# Altium integrated library NXP Microcontrollers ARM7.IntLib: 82 symbols (part 6 of 11)
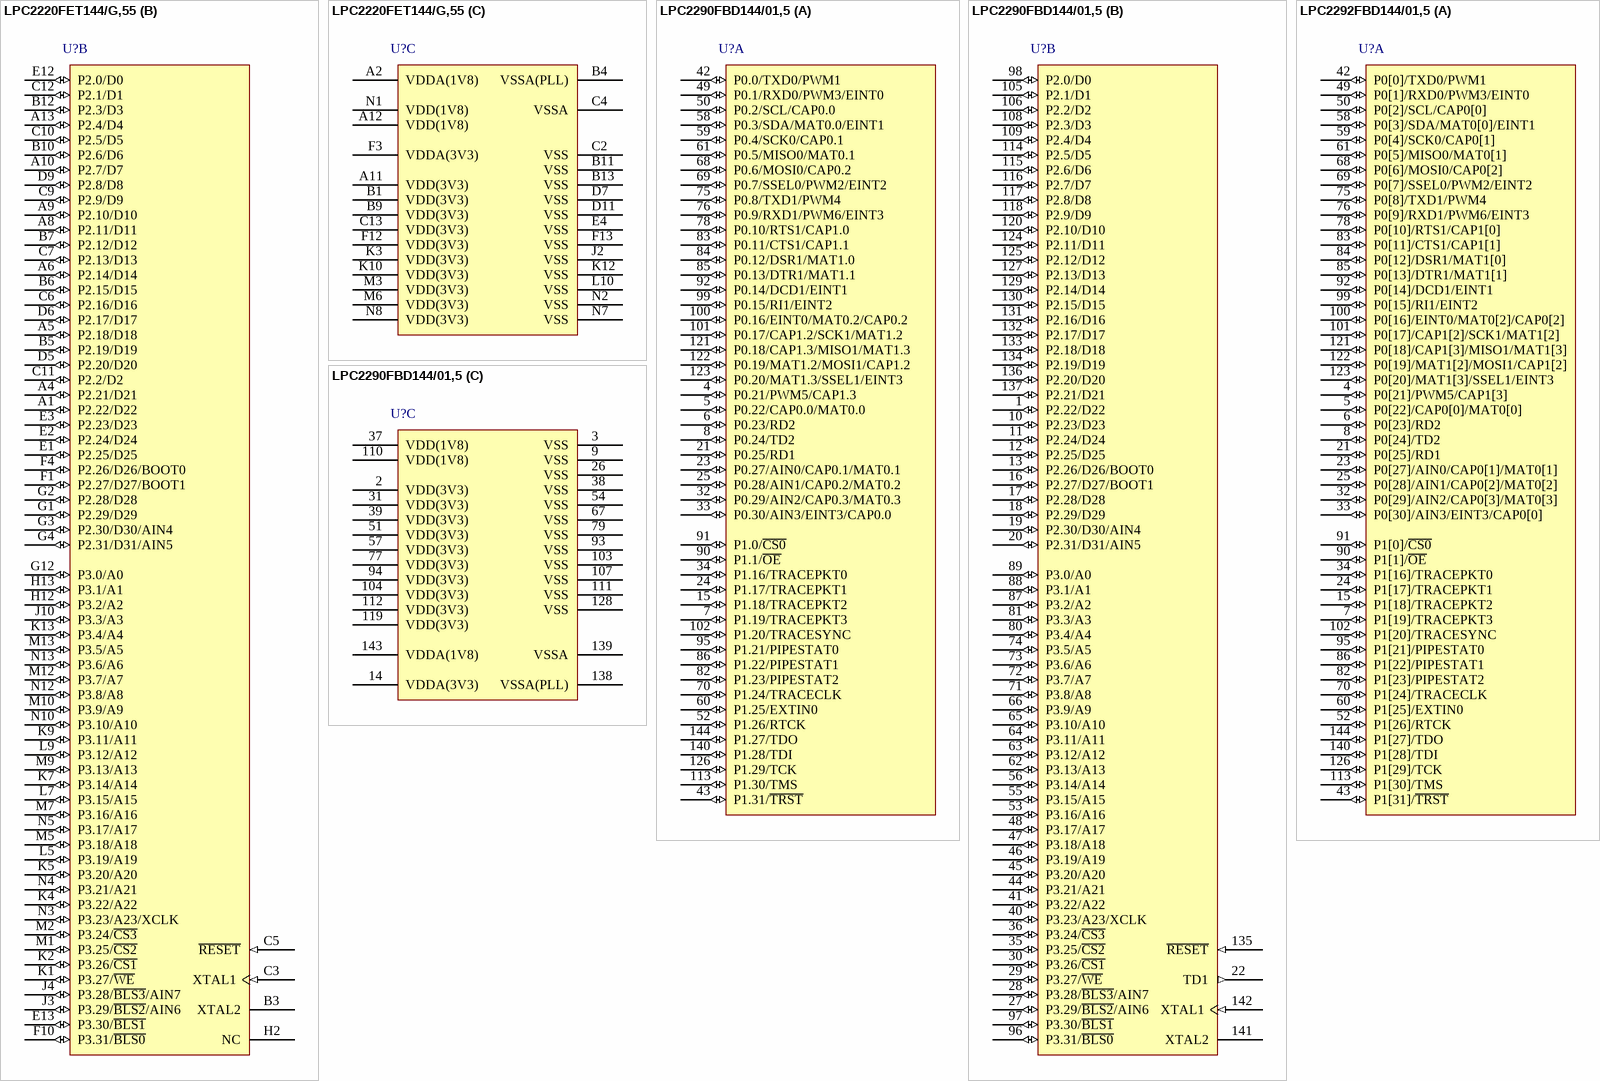
[diagram p40: symbols LPC2220FET144/G,55 to LPC2292FBD144/01,5]

## LPC2220FET144/G,55
designator U?
16/32-bit ARM7 Microcontroller, 76 I/O, 64 kB SRAM, -40 to 85 degC, 144-Ball TFBGA, Tray; Manufacturer: NXP Semiconductors; PartNumber: LPC2220FET144/G,55; # of timers: 2; ADC (bits): 10; ADC Channels: 8; fmax [max] (MHz): 75; I/O Pins: 76; I2C: 1; PLL: TRUE; PWM: 6; RAM (KB): 64; Timer (bits): 32; DatasheetVersion: Rev. 06; PackageVersion: Mar-08; PackageReference: SOT569-2; PackageDescription: 144-Ball Plastic Thin Fine-Pitch Ball Grid Array Package, Body 12 x 12 mm, Pitch 0.8 mm; Supplier 1: Digi-Key; Supplier Part Number 1: 568-2020-ND; Supplier 2: Mouser; Supplier Part Number 2: 771-LPC2220FET144/GS; Core: ARM7; Packing: Tray; SPI: 2; SSP: 1; UART: 2; Mounting Technology: Surface Mount; ComponentLink1Description: Manufacturer URL; ComponentLink1URL: http://www.nxp.com/; ComponentLink2Description: Datasheet; ComponentLink2URL: http://www.nxp.com/documents/data_sheet/LPC2210_2220.pdf; ComponentLink3Description: Package Specification; ComponentLink3URL: http://www.nxp.com/documents/outline_drawing/sot569-2_po.pdf
footprint NXP-SOT569-2_V (BGA, 144-Balls, Body 12x12mm, Pitch 0.8mm)
part A pins: A3 P1.28/TDI (io), A7 P1.29/TCK (io), B2 P1.27/TDO (io), B8 P0.20/MAT1.3/SSEL1/EINT3 (io), C1 P0.21/PWM5/CAP1.3 (io), C8 P0.19/MAT1.2/MOSI1/CAP1.2 (io), D1 P0.24 (io) "Port 0 is a 32-bit bidirectional I/O port with individual direction controls for each bit. The operation of port 0 pins depends upon the pin function selected via the Pin Connect Block.", D2 P1.19/TRACEPKT3 (io), D3 P0.23 (io) "Port 0 is a 32-bit bidirectional I/O port with individual direction controls for each bit. The operation of port 0 pins depends upon the pin function selected via the Pin Connect Block.", D4 P0.22/CAP0.0/MAT0.0 (io), D8 P0.18/CAP1.3/MISO1/MAT1.3 (io), D10 P1.30/TMS (io), D12 P1.20/TRACESYNC (io), D13 P0.17/CAP1.2/SCK1/MAT1.2 (io), E10 P0.16/EINT0/MAT0.2/CAP0.2 (io), E11 P0.15/RI1/EINT2 (io), F2 P1.18/TRACEPKT2 (io), F11 P1.21/PIPESTAT0 (io), G10 P0.14/DCD1/EINT1 (io), G11 P1.0/~{CS0} (io), G13 P1.1/~{OE} (io), H1 P0.25 (io) "Port 0 is a 32-bit bidirectional I/O port with individual direction controls for each bit. The operation of port 0 pins depends upon the pin function selected via the Pin Connect Block.", H3 P0.27/AIN0/CAP0.1/MAT0.1 (io), H4 P1.17/TRACEPKT1 (io), H10 P0.13/DTR1/MAT1.1 (io), H11 P1.22/PIPESTAT1 (io), J1 P0.28/AIN1/CAP0.2/MAT0.2 (io), J11 P1.23/PIPESTAT2 (io), J12 P0.11/CTS1/CAP1.1 (io), J13 P0.12/DSR1/MAT1.0 (io), K6 P0.1/RXD0/PWM3/EINT0 (io), K8 P1.25/EXTIN0 (io), K11 P0.10/RTS1/CAP1.0 (io), L1 P0.29/AIN2/CAP0.3/MAT0.3 (io), L2 P0.30/AIN3/EINT3/CAP0.0 (io), L3 P1.16/TRACEPKT0 (io), L4 P0.0/TXD0/PWM1 (io), L6 P0.2/SCL/CAP0.0 (io), L8 P0.4/SCK0/CAP0.1 (io), L11 P1.24/TRACECLK (io), L12 P0.8/TXD1/PWM4 (io), L13 P0.9/RXD1/PWM6/EINT3 (io), M4 P1.31/~{TRST} (io), M8 P0.3/SDA/MAT0.0/EINT1 (io), M11 P0.7/SSEL0/PWM2/EINT2 (io), N6 P1.26/RTCK (io), N9 P0.5/MISO0/MAT0.1 (io), N11 P0.6/MOSI0/CAP0.2 (io)
part B pins: A1 P2.22/D22 (io), A4 P2.21/D21 (io), A5 P2.18/D18 (io), A6 P2.14/D14 (io), A8 P2.11/D11 (io), A9 P2.10/D10 (io), A10 P2.7/D7 (io), A13 P2.4/D4 (io), B3 XTAL2 "Output from the oscillator amplifier", B5 P2.19/D19 (io), B6 P2.15/D15 (io), B7 P2.12/D12 (io), B10 P2.6/D6 (io), B12 P2.3/D3 (io), C3 XTAL1 (in) "Input to the oscillator circuit and internal clock generator circuits.", C5 ~{RESET} (in) "External reset input: A LOW on this pin resets the device, causing I/O ports and peripherals to take on their default states, and processor execution to begin at address 0. TTL with hysteresis, 5 V tolerant.", C6 P2.16/D16 (io), C7 P2.13/D13 (io), C9 P2.9/D9 (io), C10 P2.5/D5 (io), C11 P2.2/D2 (io), C12 P2.1/D1 (io), D5 P2.20/D20 (io), D6 P2.17/D17 (io), D9 P2.8/D8 (io), E1 P2.25/D25 (io), E2 P2.24/D24 (io), E3 P2.23/D23 (io), E12 P2.0/D0 (io), E13 P3.30/~{BLS1} (io), F1 P2.27/D27/BOOT1 (io), F4 P2.26/D26/BOOT0 (io), F10 P3.31/~{BLS0} (io), G1 P2.29/D29 (io), G2 P2.28/D28 (io), G3 P2.30/D30/AIN4 (io), G4 P2.31/D31/AIN5 (io), G12 P3.0/A0 (io), H2 NC "Not connected. This pin MUST NOT be pulled LOW or the device might not operate properly.", H12 P3.2/A2 (io), H13 P3.1/A1 (io), J3 P3.29/~{BLS2}/AIN6 (io), J4 P3.28/~{BLS3}/AIN7 (io), J10 P3.3/A3 (io), K1 P3.27/~{WE} (io), K2 P3.26/~{CS1} (io), K4 P3.22/A22 (io), K5 P3.20/A20 (io), K7 P3.14/A14 (io), K9 P3.11/A11 (io), K13 P3.4/A4 (io), L5 P3.19/A19 (io), L7 P3.15/A15 (io), L9 P3.12/A12 (io), M1 P3.25/~{CS2} (io), M2 P3.24/~{CS3} (io), M5 P3.18/A18 (io), M7 P3.16/A16 (io), M9 P3.13/A13 (io), M10 P3.9/A9 (io), M12 P3.7/A7 (io), M13 P3.5/A5 (io), N3 P3.23/A23/XCLK (io), N4 P3.21/A21 (io), N5 P3.17/A17 (io), N10 P3.10/A10 (io), N12 P3.8/A8 (io), N13 P3.6/A6 (io)
part C pins: A2 VDDA(1V8) (power) "Analog 1.8 V core power supply: This is the power supply voltage for internal circuitry. This should be nominally the same voltage as VDD(1V8) but should be isolated to minimize noise and error.", A11 VDD(3V3) (power) "3.3 V pad power supply: This is the power supply voltage for the I/O ports.", A12 VDD(1V8) (power) "1.8 V core power supply: This is the power supply voltage for internal circuitry.", B1 VDD(3V3) (power) "3.3 V pad power supply: This is the power supply voltage for the I/O ports.", B4 VSSA(PLL) (power) "PLL analog ground: 0 V reference. This should nominally be the same voltage as VSS, but should be isolated to minimize noise and error.", B9 VDD(3V3) (power) "3.3 V pad power supply: This is the power supply voltage for the I/O ports.", B11 VSS (power) "Ground: 0 V reference.", B13 VSS (power) "Ground: 0 V reference.", C2 VSS (power) "Ground: 0 V reference.", C4 VSSA (power) "Analog ground: 0 V reference. This should nominally be the same voltage as VSS, but should be isolated to minimize noise and error.", C13 VDD(3V3) (power) "3.3 V pad power supply: This is the power supply voltage for the I/O ports.", D7 VSS (power) "Ground: 0 V reference.", D11 VSS (power) "Ground: 0 V reference.", E4 VSS (power) "Ground: 0 V reference.", F3 VDDA(3V3) (power) "Analog 3.3 V pad power supply: This should be nominally the same voltage as VDD(3V3) but should be isolated to minimize noise and error.", F12 VDD(3V3) (power) "Analog 3.3 V pad power supply: This should be nominally the same voltage as VDD(3V3) but should be isolated to minimize noise and error.", F13 VSS (power) "Ground: 0 V reference.", J2 VSS (power) "Ground: 0 V reference.", K3 VDD(3V3) (power) "Analog 3.3 V pad power supply: This should be nominally the same voltage as VDD(3V3) but should be isolated to minimize noise and error.", K10 VDD(3V3) (power) "Analog 3.3 V pad power supply: This should be nominally the same voltage as VDD(3V3) but should be isolated to minimize noise and error.", K12 VSS (power) "Ground: 0 V reference.", L10 VSS (power) "Ground: 0 V reference.", M3 VDD(3V3) (power) "Analog 3.3 V pad power supply: This should be nominally the same voltage as VDD(3V3) but should be isolated to minimize noise and error.", M6 VDD(3V3) (power) "Analog 3.3 V pad power supply: This should be nominally the same voltage as VDD(3V3) but should be isolated to minimize noise and error.", N1 VDD(1V8) (power) "1.8 V core power supply: This is the power supply voltage for internal circuitry.", N2 VSS (power) "Ground: 0 V reference.", N7 VSS (power) "Ground: 0 V reference.", N8 VDD(3V3) (power) "Analog 3.3 V pad power supply: This should be nominally the same voltage as VDD(3V3) but should be isolated to minimize noise and error."

## LPC2290FBD144/01,5
designator U?
16/32-bit ARM7 Microcontroller, 76 I/O, 64 kB SRAM, -40 to 85 degC, 144-Pin LQFP, Tray; Manufacturer: NXP Semiconductors; PartNumber: LPC2290FBD144/01,5; # of timers: 2; ADC (bits): 10; ADC Channels: 8; fmax [max] (MHz): 60; I/O Pins: 76; I2C: 1; PLL: TRUE; PWM: 6; RAM (KB): 64; Timer (bits): 32; DatasheetVersion: Rev. 03; PackageVersion: Feb-03; PackageReference: SOT486-1; PackageDescription: 144-Pin Plastic Low Profile Quad Flat Package, Body 20 x 20 mm, Pitch 0.5 mm; Supplier 1: Digi-Key; Supplier Part Number 1: 568-4013-ND; Supplier 2: Mouser; Supplier Part Number 2: 771-LPC2290FBD14401S; CAN: 2; Core: ARM7; Packing: Tray; SPI: 2; SSP: 1; UART: 2; Mounting Technology: Surface Mount; Code_JEDEC: MS-026; ComponentLink1Description: Manufacturer URL; ComponentLink1URL: http://www.nxp.com/; ComponentLink2Description: Datasheet; ComponentLink2URL: http://www.nxp.com/documents/data_sheet/LPC2290.pdf; ComponentLink3Description: Package Specification; ComponentLink3URL: http://www.nxp.com/documents/outline_drawing/sot486-1_po.pdf
footprint NXP-SOT486-1_V (QFP, 144-Leads, Body 20x20mm, Pitch 0.5mm)
part A pins: 4 P0.21/PWM5/CAP1.3 (io), 5 P0.22/CAP0.0/MAT0.0 (io), 6 P0.23/RD2 (io), 7 P1.19/TRACEPKT3 (io), 8 P0.24/TD2 (io), 15 P1.18/TRACEPKT2 (io), 21 P0.25/RD1 (io), 23 P0.27/AIN0/CAP0.1/MAT0.1 (io), 24 P1.17/TRACEPKT1 (io), 25 P0.28/AIN1/CAP0.2/MAT0.2 (io), 32 P0.29/AIN2/CAP0.3/MAT0.3 (io), 33 P0.30/AIN3/EINT3/CAP0.0 (io), 34 P1.16/TRACEPKT0 (io), 42 P0.0/TXD0/PWM1 (io), 43 P1.31/~{TRST} (io), 49 P0.1/RXD0/PWM3/EINT0 (io), 50 P0.2/SCL/CAP0.0 (io), 52 P1.26/RTCK (io), 58 P0.3/SDA/MAT0.0/EINT1 (io), 59 P0.4/SCK0/CAP0.1 (io), 60 P1.25/EXTIN0 (io), 61 P0.5/MISO0/MAT0.1 (io), 68 P0.6/MOSI0/CAP0.2 (io), 69 P0.7/SSEL0/PWM2/EINT2 (io), 70 P1.24/TRACECLK (io), 75 P0.8/TXD1/PWM4 (io), 76 P0.9/RXD1/PWM6/EINT3 (io), 78 P0.10/RTS1/CAP1.0 (io), 82 P1.23/PIPESTAT2 (io), 83 P0.11/CTS1/CAP1.1 (io), 84 P0.12/DSR1/MAT1.0 (io), 85 P0.13/DTR1/MAT1.1 (io), 86 P1.22/PIPESTAT1 (io), 90 P1.1/~{OE} (io), 91 P1.0/~{CS0} (io), 92 P0.14/DCD1/EINT1 (io), 95 P1.21/PIPESTAT0 (io), 99 P0.15/RI1/EINT2 (io), 100 P0.16/EINT0/MAT0.2/CAP0.2 (io), 101 P0.17/CAP1.2/SCK1/MAT1.2 (io), 102 P1.20/TRACESYNC (io), 113 P1.30/TMS (io), 121 P0.18/CAP1.3/MISO1/MAT1.3 (io), 122 P0.19/MAT1.2/MOSI1/CAP1.2 (io), 123 P0.20/MAT1.3/SSEL1/EINT3 (io), 126 P1.29/TCK (io), 140 P1.28/TDI (io), 144 P1.27/TDO (io)
part B pins: 1 P2.22/D22 (io), 10 P2.23/D23 (io), 11 P2.24/D24 (io), 12 P2.25/D25 (io), 13 P2.26/D26/BOOT0 (io), 16 P2.27/D27/BOOT1 (io), 17 P2.28/D28 (io), 18 P2.29/D29 (io), 19 P2.30/D30/AIN4 (io), 20 P2.31/D31/AIN5 (io), 22 TD1 (out) "TD1: CAN1 transmitter output.", 27 P3.29/~{BLS2}/AIN6 (io), 28 P3.28/~{BLS3}/AIN7 (io), 29 P3.27/~{WE} (io), 30 P3.26/~{CS1} (io), 35 P3.25/~{CS2} (io), 36 P3.24/~{CS3} (io), 40 P3.23/A23/XCLK (io), 41 P3.22/A22 (io), 44 P3.21/A21 (io), 45 P3.20/A20 (io), 46 P3.19/A19 (io), 47 P3.18/A18 (io), 48 P3.17/A17 (io), 53 P3.16/A16 (io), 55 P3.15/A15 (io), 56 P3.14/A14 (io), 62 P3.13/A13 (io), 63 P3.12/A12 (io), 64 P3.11/A11 (io), 65 P3.10/A10 (io), 66 P3.9/A9 (io), 71 P3.8/A8 (io), 72 P3.7/A7 (io), 73 P3.6/A6 (io), 74 P3.5/A5 (io), 80 P3.4/A4 (io), 81 P3.3/A3 (io), 87 P3.2/A2 (io), 88 P3.1/A1 (io), 89 P3.0/A0 (io), 96 P3.31/~{BLS0} (io), 97 P3.30/~{BLS1} (io), 98 P2.0/D0 (io), 105 P2.1/D1 (io), 106 P2.2/D2 (io), 108 P2.3/D3 (io), 109 P2.4/D4 (io), 114 P2.5/D5 (io), 115 P2.6/D6 (io), 116 P2.7/D7 (io), 117 P2.8/D8 (io), 118 P2.9/D9 (io), 120 P2.10/D10 (io), 124 P2.11/D11 (io), 125 P2.12/D12 (io), 127 P2.13/D13 (io), 129 P2.14/D14 (io), 130 P2.15/D15 (io), 131 P2.16/D16 (io), 132 P2.17/D17 (io), 133 P2.18/D18 (io), 134 P2.19/D19 (io), 135 ~{RESET} (in) "External Reset input: A LOW on this pin resets the device, causing I/O ports and peripherals to take on their default states, and processor execution to begin at address 0. TTL with hysteresis, 5 V tolerant.", 136 P2.20/D20 (io), 137 P2.21/D21 (io), 141 XTAL2 "Output from the oscillator amplifier.", 142 XTAL1 (in) "Input to the oscillator circuit and internal clock generator circuits."
part C pins: 2 VDD(3V3) (power) "3.3 V pad power supply: This is the power supply voltage for the I/O ports.", 3 VSS (power) "Ground: 0 V reference.", 9 VSS (power) "Ground: 0 V reference.", 14 VDDA(3V3) (power) "Analog 3.3 V pad power supply: This should be nominally the same voltage as VDD(3V3) but should be isolated to minimize noise and error.", 26 VSS (power) "Ground: 0 V reference.", 31 VDD(3V3) (power) "3.3 V pad power supply: This is the power supply voltage for the I/O ports.", 37 VDD(1V8) (power) "1.8 V core power supply: This is the power supply voltage for internal circuitry.", 38 VSS (power) "Ground: 0 V reference.", 39 VDD(3V3) (power) "3.3 V pad power supply: This is the power supply voltage for the I/O ports.", 51 VDD(3V3) (power) "3.3 V pad power supply: This is the power supply voltage for the I/O ports.", 54 VSS (power) "Ground: 0 V reference.", 57 VDD(3V3) (power) "3.3 V pad power supply: This is the power supply voltage for the I/O ports.", 67 VSS (power) "Ground: 0 V reference.", 77 VDD(3V3) (power) "3.3 V pad power supply: This is the power supply voltage for the I/O ports.", 79 VSS (power) "Ground: 0 V reference.", 93 VSS (power) "Ground: 0 V reference.", 94 VDD(3V3) (power) "3.3 V pad power supply: This is the power supply voltage for the I/O ports.", 103 VSS (power) "Ground: 0 V reference.", 104 VDD(3V3) (power) "3.3 V pad power supply: This is the power supply voltage for the I/O ports.", 107 VSS (power) "Ground: 0 V reference.", 110 VDD(1V8) (power) "1.8 V core power supply: This is the power supply voltage for internal circuitry.", 111 VSS (power) "Ground: 0 V reference.", 112 VDD(3V3) (power) "3.3 V pad power supply: This is the power supply voltage for the I/O ports.", 119 VDD(3V3) (power) "3.3 V pad power supply: This is the power supply voltage for the I/O ports.", 128 VSS (power) "Ground: 0 V reference.", 138 VSSA(PLL) (power) "PLL analog ground: 0 V reference. This should nominally be the same voltage as VSS, but should be isolated to minimize noise and error.", 139 VSSA (power) "Analog ground: 0 V reference. This should nominally be the same voltage as VSS, but should be isolated to minimize noise and error.", 143 VDDA(1V8) (power) "Analog 1.8 V core power supply: This is the power supply voltage for internal circuitry. This should be nominally the same voltage as VDD(1V8) but should be isolated to minimize noise and error."

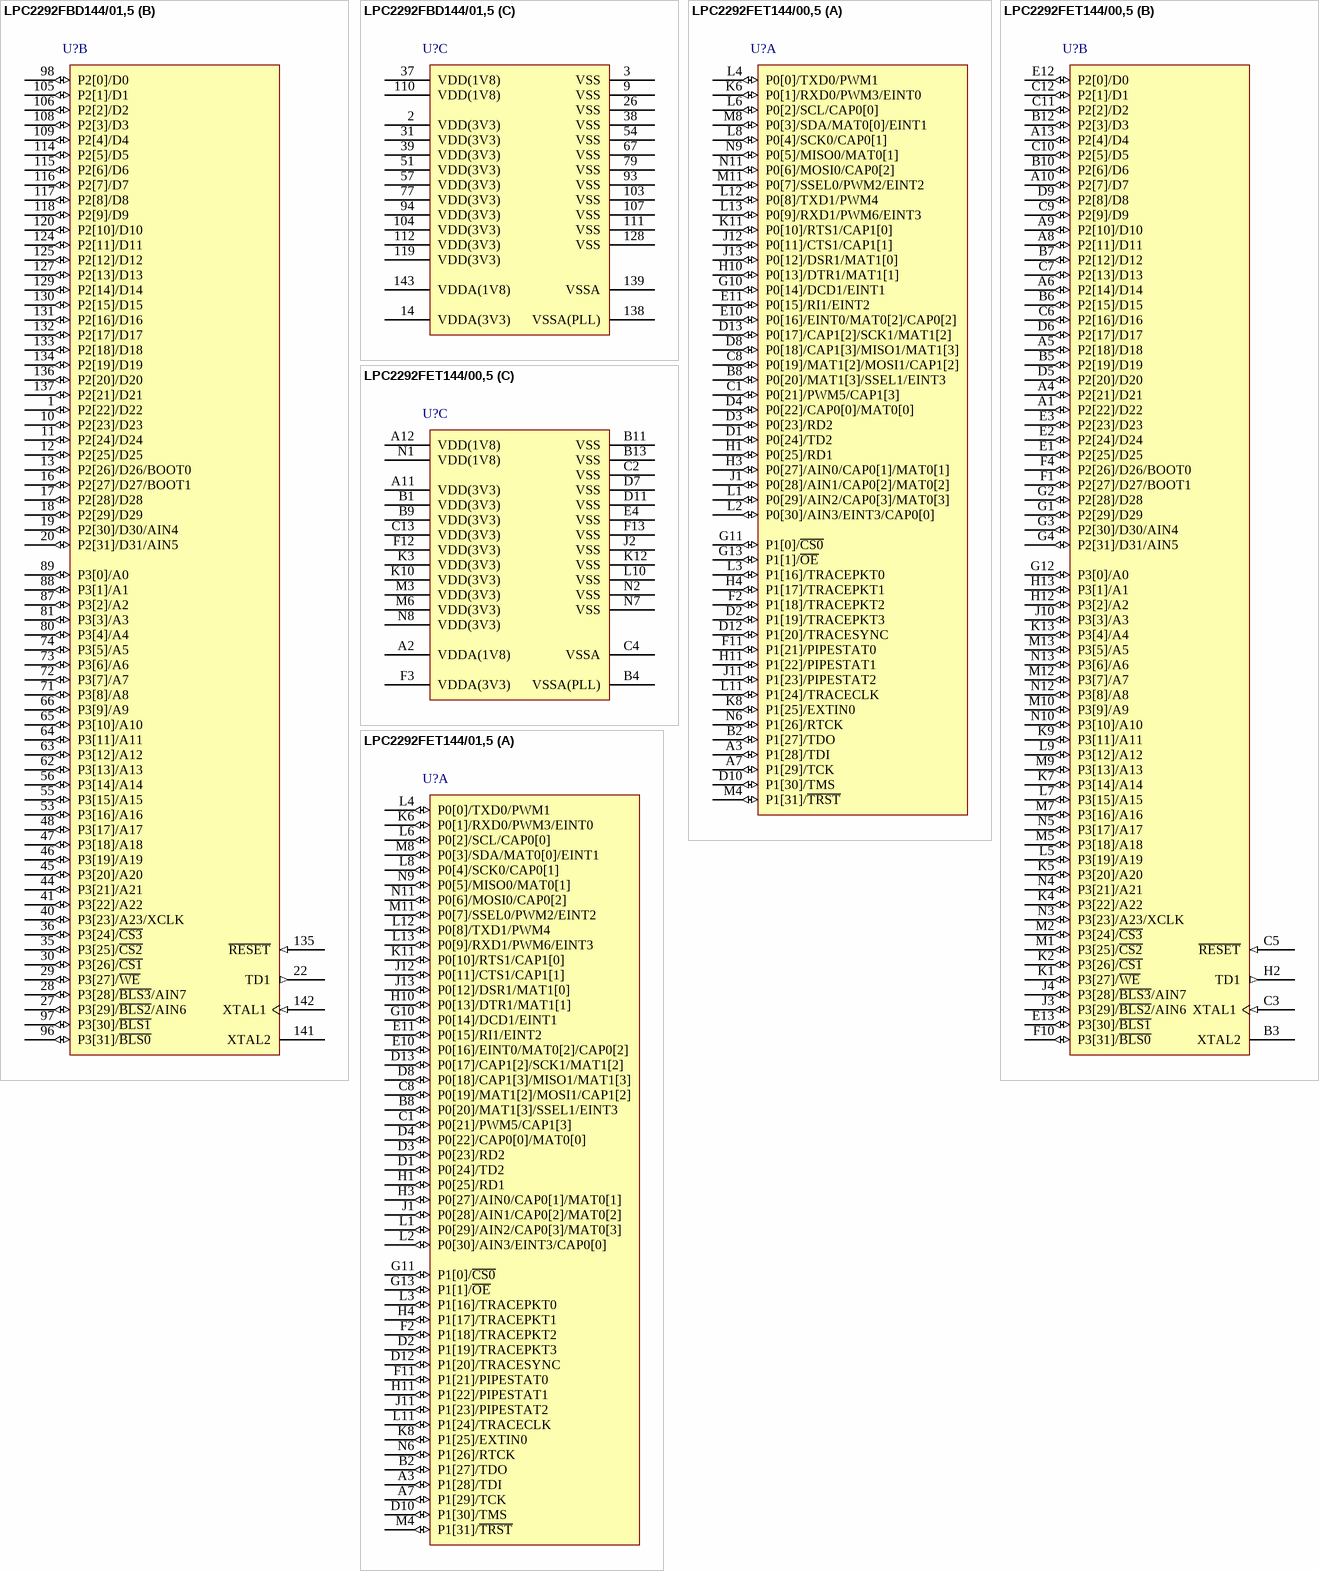
[diagram p16: symbols LPC2292FBD144/01,5 to LPC2292FET144/01,5]

## LPC2292FBD144/01,5
designator U?
16/32-bit ARM7 Microcontroller, 112 I/O, 256 kB Flash, 16 kB SRAM, -40 to 85 degC, 144-Pin LQFP, Tray; Manufacturer: NXP Semiconductors; PartNumber: LPC2292FBD144/01,5; # of timers: 2; ADC (bits): 10; ADC Channels: 8; Flash (KB): 256; fmax [max] (MHz): 60; I/O Pins: 112; I2C: 1; PLL: TRUE; PWM: 6; RAM (KB): 16; SSP: 4; Timer (bits): 32; DatasheetVersion: Rev. 8; PackageVersion: Feb-03; PackageReference: SOT486-1; PackageDescription: 144-Pin Plastic Low Profile Quad Flat Package, Body 20 x 20 mm, Pitch 0.5 mm; Supplier 1: Digi-Key; Supplier Part Number 1: 568-4319-ND; Supplier 2: Newark; Supplier Part Number 2: 70R5641; Supplier 3: Mouser; Supplier Part Number 3: 771-LPC2292FBD14401S; CAN: 2; Core: ARM7; Packing: Tray; SPI: 2; UART: 2; Mounting Technology: Surface Mount; Code_JEDEC: MS-026; ComponentLink1Description: Manufacturer URL; ComponentLink1URL: http://www.nxp.com/; ComponentLink2Description: Datasheet; ComponentLink2URL: http://www.nxp.com/documents/data_sheet/LPC2292_2294.pdf; ComponentLink3Description: Package Specification; ComponentLink3URL: http://www.nxp.com/documents/outline_drawing/sot486-1_po.pdf
footprint NXP-SOT486-1_V (QFP, 144-Leads, Body 20x20mm, Pitch 0.5mm)
part A pins: 4 P0[21]/PWM5/CAP1[3] (io), 5 P0[22]/CAP0[0]/MAT0[0] (io), 6 P0[23]/RD2 (io), 7 P1[19]/TRACEPKT3 (io), 8 P0[24]/TD2 (io), 15 P1[18]/TRACEPKT2 (io), 21 P0[25]/RD1 (io), 23 P0[27]/AIN0/CAP0[1]/MAT0[1] (io), 24 P1[17]/TRACEPKT1 (io), 25 P0[28]/AIN1/CAP0[2]/MAT0[2] (io), 32 P0[29]/AIN2/CAP0[3]/MAT0[3] (io), 33 P0[30]/AIN3/EINT3/CAP0[0] (io), 34 P1[16]/TRACEPKT0 (io), 42 P0[0]/TXD0/PWM1 (io), 43 P1[31]/~{TRST} (io), 49 P0[1]/RXD0/PWM3/EINT0 (io), 50 P0[2]/SCL/CAP0[0] (io), 52 P1[26]/RTCK (io), 58 P0[3]/SDA/MAT0[0]/EINT1 (io), 59 P0[4]/SCK0/CAP0[1] (io), 60 P1[25]/EXTIN0 (io), 61 P0[5]/MISO0/MAT0[1] (io), 68 P0[6]/MOSI0/CAP0[2] (io), 69 P0[7]/SSEL0/PWM2/EINT2 (io), 70 P1[24]/TRACECLK (io), 75 P0[8]/TXD1/PWM4 (io), 76 P0[9]/RXD1/PWM6/EINT3 (io), 78 P0[10]/RTS1/CAP1[0] (io), 82 P1[23]/PIPESTAT2 (io), 83 P0[11]/CTS1/CAP1[1] (io), 84 P0[12]/DSR1/MAT1[0] (io), 85 P0[13]/DTR1/MAT1[1] (io), 86 P1[22]/PIPESTAT1 (io), 90 P1[1]/~{OE} (io), 91 P1[0]/~{CS0} (io), 92 P0[14]/DCD1/EINT1 (io), 95 P1[21]/PIPESTAT0 (io), 99 P0[15]/RI1/EINT2 (io), 100 P0[16]/EINT0/MAT0[2]/CAP0[2] (io), 101 P0[17]/CAP1[2]/SCK1/MAT1[2] (io), 102 P1[20]/TRACESYNC (io), 113 P1[30]/TMS (io), 121 P0[18]/CAP1[3]/MISO1/MAT1[3] (io), 122 P0[19]/MAT1[2]/MOSI1/CAP1[2] (io), 123 P0[20]/MAT1[3]/SSEL1/EINT3 (io), 126 P1[29]/TCK (io), 140 P1[28]/TDI (io), 144 P1[27]/TDO (io)
part B pins: 1 P2[22]/D22 (io), 10 P2[23]/D23 (io), 11 P2[24]/D24 (io), 12 P2[25]/D25 (io), 13 P2[26]/D26/BOOT0 (io), 16 P2[27]/D27/BOOT1 (io), 17 P2[28]/D28 (io), 18 P2[29]/D29 (io), 19 P2[30]/D30/AIN4 (io), 20 P2[31]/D31/AIN5 (io), 22 TD1 (out) "TD1: CAN1 transmitter output.", 27 P3[29]/~{BLS2}/AIN6 (io), 28 P3[28]/~{BLS3}/AIN7 (io), 29 P3[27]/~{WE} (io), 30 P3[26]/~{CS1} (io), 35 P3[25]/~{CS2} (io), 36 P3[24]/~{CS3} (io), 40 P3[23]/A23/XCLK (io), 41 P3[22]/A22 (io), 44 P3[21]/A21 (io), 45 P3[20]/A20 (io), 46 P3[19]/A19 (io), 47 P3[18]/A18 (io), 48 P3[17]/A17 (io), 53 P3[16]/A16 (io), 55 P3[15]/A15 (io), 56 P3[14]/A14 (io), 62 P3[13]/A13 (io), 63 P3[12]/A12 (io), 64 P3[11]/A11 (io), 65 P3[10]/A10 (io), 66 P3[9]/A9 (io), 71 P3[8]/A8 (io), 72 P3[7]/A7 (io), 73 P3[6]/A6 (io), 74 P3[5]/A5 (io), 80 P3[4]/A4 (io), 81 P3[3]/A3 (io), 87 P3[2]/A2 (io), 88 P3[1]/A1 (io), 89 P3[0]/A0 (io), 96 P3[31]/~{BLS0} (io), 97 P3[30]/~{BLS1} (io), 98 P2[0]/D0 (io), 105 P2[1]/D1 (io), 106 P2[2]/D2 (io), 108 P2[3]/D3 (io), 109 P2[4]/D4 (io), 114 P2[5]/D5 (io), 115 P2[6]/D6 (io), 116 P2[7]/D7 (io), 117 P2[8]/D8 (io), 118 P2[9]/D9 (io), 120 P2[10]/D10 (io), 124 P2[11]/D11 (io), 125 P2[12]/D12 (io), 127 P2[13]/D13 (io), 129 P2[14]/D14 (io), 130 P2[15]/D15 (io), 131 P2[16]/D16 (io), 132 P2[17]/D17 (io), 133 P2[18]/D18 (io), 134 P2[19]/D19 (io), 135 ~{RESET} (in) "External Reset input: A LOW on this pin resets the device, causing I/O ports and peripherals to take on their default states, and processor execution to begin at address 0. TTL with hysteresis, 5 V tolerant.", 136 P2[20]/D20 (io), 137 P2[21]/D21 (io), 141 XTAL2 "Output from the oscillator amplifier.", 142 XTAL1 (in) "Input to the oscillator circuit and internal clock generator circuits."
part C pins: 2 VDD(3V3) (power) "3.3 V pad power supply: This is the power supply voltage for the I/O ports.", 3 VSS (power) "Ground: 0 V reference.", 9 VSS (power) "Ground: 0 V reference.", 14 VDDA(3V3) (power) "Analog 3.3 V pad power supply: This should be nominally the same voltage as VDD(3V3) but should be isolated to minimize noise and error.", 26 VSS (power) "Ground: 0 V reference.", 31 VDD(3V3) (power) "3.3 V pad power supply: This is the power supply voltage for the I/O ports.", 37 VDD(1V8) (power) "1.8 V core power supply: This is the power supply voltage for internal circuitry.", 38 VSS (power) "Ground: 0 V reference.", 39 VDD(3V3) (power) "3.3 V pad power supply: This is the power supply voltage for the I/O ports.", 51 VDD(3V3) (power) "3.3 V pad power supply: This is the power supply voltage for the I/O ports.", 54 VSS (power) "Ground: 0 V reference.", 57 VDD(3V3) (power) "3.3 V pad power supply: This is the power supply voltage for the I/O ports.", 67 VSS (power) "Ground: 0 V reference.", 77 VDD(3V3) (power) "3.3 V pad power supply: This is the power supply voltage for the I/O ports.", 79 VSS (power) "Ground: 0 V reference.", 93 VSS (power) "Ground: 0 V reference.", 94 VDD(3V3) (power) "3.3 V pad power supply: This is the power supply voltage for the I/O ports.", 103 VSS (power) "Ground: 0 V reference.", 104 VDD(3V3) (power) "3.3 V pad power supply: This is the power supply voltage for the I/O ports.", 107 VSS (power) "Ground: 0 V reference.", 110 VDD(1V8) (power) "1.8 V core power supply: This is the power supply voltage for internal circuitry.", 111 VSS (power) "Ground: 0 V reference.", 112 VDD(3V3) (power) "3.3 V pad power supply: This is the power supply voltage for the I/O ports.", 119 VDD(3V3) (power) "3.3 V pad power supply: This is the power supply voltage for the I/O ports.", 128 VSS (power) "Ground: 0 V reference.", 138 VSSA(PLL) (power) "PLL analog ground: 0 V reference. This should nominally be the same voltage as VSS, but should be isolated to minimize noise and error.", 139 VSSA (power) "Analog ground: 0 V reference. This should nominally be the same voltage as VSS, but should be isolated to minimize noise and error.", 143 VDDA(1V8) (power) "Analog 1.8 V core power supply: This is the power supply voltage for internal circuitry. This should be nominally the same voltage as VDD(1V8) but should be isolated to minimize noise and error."

## LPC2292FET144/00,5
designator U?
16/32-bit ARM7 Microcontroller, 112 I/O, 256 kB Flash, 16 kB SRAM, -40 to 85 degC, 144-Ball TFBGA, Tray; Manufacturer: NXP Semiconductors; PartNumber: LPC2292FET144/00,5; # of timers: 2; Flash (KB): 256; fmax [max] (MHz): 60; I/O Pins: 112; I2C: 1; PLL: TRUE; PWM: 6; RAM (KB): 16; Timer (bits): 32; DatasheetVersion: Rev. 8; PackageVersion: Mar-08; PackageReference: SOT569-2; PackageDescription: 144-Ball Plastic Thin Fine-Pitch Ball Grid Array Package, Body 12 x 12 mm, Pitch 0.8 mm; Supplier 1: Mouser; Supplier Part Number 1: N/A; CAN: 2; Core: ARM7; Packing: Tray; SPI: 2; UART: 2; Mounting Technology: Surface Mount; ComponentLink1Description: Manufacturer URL; ComponentLink1URL: http://www.nxp.com/; ComponentLink2Description: Datasheet; ComponentLink2URL: http://www.nxp.com/documents/data_sheet/LPC2292_2294.pdf; ComponentLink3Description: Package Specification; ComponentLink3URL: http://www.nxp.com/documents/outline_drawing/sot569-2_po.pdf
footprint NXP-SOT569-2_V (BGA, 144-Balls, Body 12x12mm, Pitch 0.8mm)
part A pins: A3 P1[28]/TDI (io), A7 P1[29]/TCK (io), B2 P1[27]/TDO (io), B8 P0[20]/MAT1[3]/SSEL1/EINT3 (io), C1 P0[21]/PWM5/CAP1[3] (io), C8 P0[19]/MAT1[2]/MOSI1/CAP1[2] (io), D1 P0[24]/TD2 (io), D2 P1[19]/TRACEPKT3 (io), D3 P0[23]/RD2 (io), D4 P0[22]/CAP0[0]/MAT0[0] (io), D8 P0[18]/CAP1[3]/MISO1/MAT1[3] (io), D10 P1[30]/TMS (io), D12 P1[20]/TRACESYNC (io), D13 P0[17]/CAP1[2]/SCK1/MAT1[2] (io), E10 P0[16]/EINT0/MAT0[2]/CAP0[2] (io), E11 P0[15]/RI1/EINT2 (io), F2 P1[18]/TRACEPKT2 (io), F11 P1[21]/PIPESTAT0 (io), G10 P0[14]/DCD1/EINT1 (io), G11 P1[0]/~{CS0} (io), G13 P1[1]/~{OE} (io), H1 P0[25]/RD1 (io), H3 P0[27]/AIN0/CAP0[1]/MAT0[1] (io), H4 P1[17]/TRACEPKT1 (io), H10 P0[13]/DTR1/MAT1[1] (io), H11 P1[22]/PIPESTAT1 (io), J1 P0[28]/AIN1/CAP0[2]/MAT0[2] (io), J11 P1[23]/PIPESTAT2 (io), J12 P0[11]/CTS1/CAP1[1] (io), J13 P0[12]/DSR1/MAT1[0] (io), K6 P0[1]/RXD0/PWM3/EINT0 (io), K8 P1[25]/EXTIN0 (io), K11 P0[10]/RTS1/CAP1[0] (io), L1 P0[29]/AIN2/CAP0[3]/MAT0[3] (io), L2 P0[30]/AIN3/EINT3/CAP0[0] (io), L3 P1[16]/TRACEPKT0 (io), L4 P0[0]/TXD0/PWM1 (io), L6 P0[2]/SCL/CAP0[0] (io), L8 P0[4]/SCK0/CAP0[1] (io), L11 P1[24]/TRACECLK (io), L12 P0[8]/TXD1/PWM4 (io), L13 P0[9]/RXD1/PWM6/EINT3 (io), M4 P1[31]/~{TRST} (io), M8 P0[3]/SDA/MAT0[0]/EINT1 (io), M11 P0[7]/SSEL0/PWM2/EINT2 (io), N6 P1[26]/RTCK (io), N9 P0[5]/MISO0/MAT0[1] (io), N11 P0[6]/MOSI0/CAP0[2] (io)
part B pins: A1 P2[22]/D22 (io), A4 P2[21]/D21 (io), A5 P2[18]/D18 (io), A6 P2[14]/D14 (io), A8 P2[11]/D11 (io), A9 P2[10]/D10 (io), A10 P2[7]/D7 (io), A13 P2[4]/D4 (io), B3 XTAL2 "Output from the oscillator amplifier.", B5 P2[19]/D19 (io), B6 P2[15]/D15 (io), B7 P2[12]/D12 (io), B10 P2[6]/D6 (io), B12 P2[3]/D3 (io), C3 XTAL1 (in) "Input to the oscillator circuit and internal clock generator circuits.", C5 ~{RESET} (in) "External reset input: A LOW on this pin resets the device,causing I/O ports and peripherals to take on their default states, and processor execution to begin at address 0. TTL with hysteresis, 5 V tolerant.", C6 P2[16]/D16 (io), C7 P2[13]/D13 (io), C9 P2[9]/D9 (io), C10 P2[5]/D5 (io), C11 P2[2]/D2 (io), C12 P2[1]/D1 (io), D5 P2[20]/D20 (io), D6 P2[17]/D17 (io), D9 P2[8]/D8 (io), E1 P2[25]/D25 (io), E2 P2[24]/D24 (io), E3 P2[23]/D23 (io), E12 P2[0]/D0 (io), E13 P3[30]/~{BLS1} (io), F1 P2[27]/D27/BOOT1 (io), F4 P2[26]/D26/BOOT0 (io), F10 P3[31]/~{BLS0} (io), G1 P2[29]/D29 (io), G2 P2[28]/D28 (io), G3 P2[30]/D30/AIN4 (io), G4 P2[31]/D31/AIN5 (io), G12 P3[0]/A0 (io), H2 TD1 (out) "TD1: CAN1 transmitter output.", H12 P3[2]/A2 (io), H13 P3[1]/A1 (io), J3 P3[29]/~{BLS2}/AIN6 (io), J4 P3[28]/~{BLS3}/AIN7 (io), J10 P3[3]/A3 (io), K1 P3[27]/~{WE} (io), K2 P3[26]/~{CS1} (io), K4 P3[22]/A22 (io), K5 P3[20]/A20 (io), K7 P3[14]/A14 (io), K9 P3[11]/A11 (io), K13 P3[4]/A4 (io), L5 P3[19]/A19 (io), L7 P3[15]/A15 (io), L9 P3[12]/A12 (io), M1 P3[25]/~{CS2} (io), M2 P3[24]/~{CS3} (io), M5 P3[18]/A18 (io), M7 P3[16]/A16 (io), M9 P3[13]/A13 (io), M10 P3[9]/A9 (io), M12 P3[7]/A7 (io), M13 P3[5]/A5 (io), N3 P3[23]/A23/XCLK (io), N4 P3[21]/A21 (io), N5 P3[17]/A17 (io), N10 P3[10]/A10 (io), N12 P3[8]/A8 (io), N13 P3[6]/A6 (io)
part C pins: A2 VDDA(1V8) (power) "Analog 1.8 V core power supply: This is the power supply voltage for internal circuitry. This should be nominally the same voltage as VDD(1V8) but should be isolated to minimize noise and error.", A11 VDD(3V3) (power) "3.3 V pad power supply: This is the power supply voltage for the I/O ports.", A12 VDD(1V8) (power) "1.8 V core power supply: This is the power supply voltage for internal circuitry.", B1 VDD(3V3) (power) "3.3 V pad power supply: This is the power supply voltage for the I/O ports.", B4 VSSA(PLL) (power) "PLL analog ground: 0 V reference. This should nominally be the same voltage as VSS, but should be isolated to minimize noise and error.", B9 VDD(3V3) (power) "3.3 V pad power supply: This is the power supply voltage for the I/O ports.", B11 VSS (power) "Ground: 0 V reference.", B13 VSS (power) "Ground: 0 V reference.", C2 VSS (power) "Ground: 0 V reference.", C4 VSSA (power) "Analog ground: 0 V reference. This should nominally be the same voltage as VSS, but should be isolated to minimize noise and error.", C13 VDD(3V3) (power) "3.3 V pad power supply: This is the power supply voltage for the I/O ports.", D7 VSS (power) "Ground: 0 V reference.", D11 VSS (power) "Ground: 0 V reference.", E4 VSS (power) "Ground: 0 V reference.", F3 VDDA(3V3) (power) "Analog 3.3 V pad power supply: This should be nominally the same voltage as VDD(3V3) but should be isolated to minimize noise and error.", F12 VDD(3V3) (power) "3.3 V pad power supply: This is the power supply voltage for the I/O ports.", F13 VSS (power) "Ground: 0 V reference.", J2 VSS (power) "Ground: 0 V reference.", K3 VDD(3V3) (power) "3.3 V pad power supply: This is the power supply voltage for the I/O ports.", K10 VDD(3V3) (power) "3.3 V pad power supply: This is the power supply voltage for the I/O ports.", K12 VSS (power) "Ground: 0 V reference.", L10 VSS (power) "Ground: 0 V reference.", M3 VDD(3V3) (power) "3.3 V pad power supply: This is the power supply voltage for the I/O ports.", M6 VDD(3V3) (power) "3.3 V pad power supply: This is the power supply voltage for the I/O ports.", N1 VDD(1V8) (power) "1.8 V core power supply: This is the power supply voltage for internal circuitry.", N2 VSS (power) "Ground: 0 V reference.", N7 VSS (power) "Ground: 0 V reference.", N8 VDD(3V3) (power) "3.3 V pad power supply: This is the power supply voltage for the I/O ports."

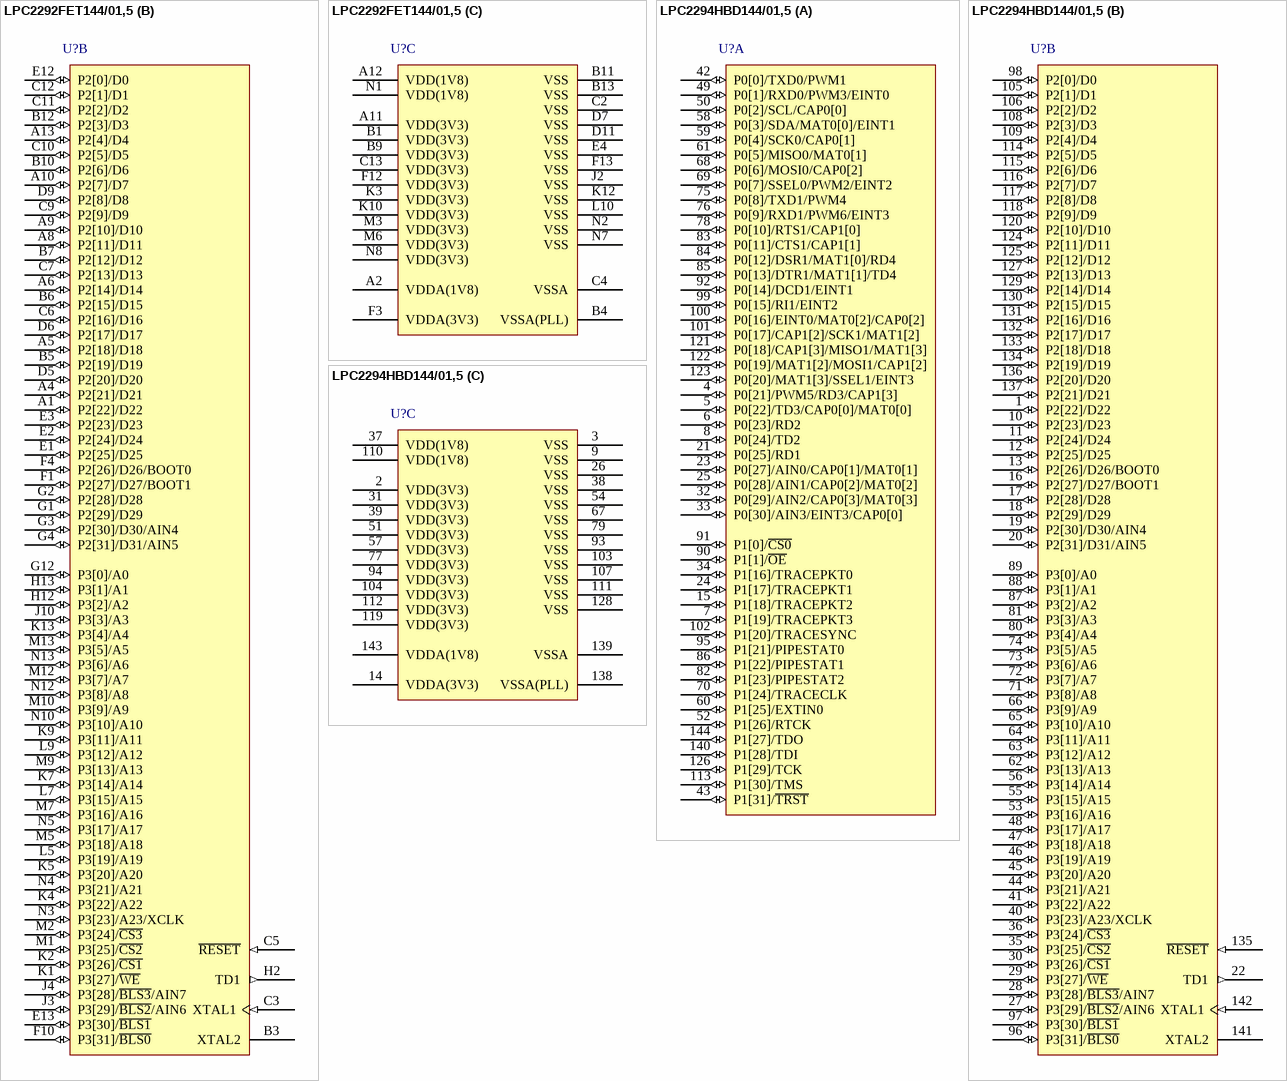
[diagram p17: symbols LPC2292FET144/01,5 to LPC2294HBD144/01,5]

## LPC2292FET144/01,5
designator U?
16/32-bit ARM7 Microcontroller, 112 I/O, 256 kB Flash, 16 kB SRAM, -40 to 85 degC, 144-Ball TFBGA, Tray; Manufacturer: NXP Semiconductors; PartNumber: LPC2292FET144/01,5; # of timers: 2; ADC (bits): 10; ADC Channels: 8; Flash (KB): 256; fmax [max] (MHz): 60; I/O Pins: 112; I2C: 1; PLL: TRUE; PWM: 6; RAM (KB): 16; SSP: 4; Timer (bits): 32; DatasheetVersion: Rev. 8; PackageVersion: Mar-08; PackageReference: SOT569-2; PackageDescription: 144-Ball Plastic Thin Fine-Pitch Ball Grid Array Package, Body 12 x 12 mm, Pitch 0.8 mm; Supplier 1: Digi-Key; Supplier Part Number 1: 568-4320-ND; Supplier 2: Farnell; Supplier Part Number 2: 2347211; Supplier 3: Newark; Supplier Part Number 3: 70R5642; Supplier 4: Mouser; Supplier Part Number 4: 771-LPC2292FET14401S; CAN: 2; Core: ARM7; Packing: Tray; SPI: 2; UART: 2; Mounting Technology: Surface Mount; ComponentLink1Description: Manufacturer URL; ComponentLink1URL: http://www.nxp.com/; ComponentLink2Description: Datasheet; ComponentLink2URL: http://www.nxp.com/documents/data_sheet/LPC2292_2294.pdf; ComponentLink3Description: Package Specification; ComponentLink3URL: http://www.nxp.com/documents/outline_drawing/sot569-2_po.pdf
footprint NXP-SOT569-2_V (BGA, 144-Balls, Body 12x12mm, Pitch 0.8mm)
part A pins: A3 P1[28]/TDI (io), A7 P1[29]/TCK (io), B2 P1[27]/TDO (io), B8 P0[20]/MAT1[3]/SSEL1/EINT3 (io), C1 P0[21]/PWM5/CAP1[3] (io), C8 P0[19]/MAT1[2]/MOSI1/CAP1[2] (io), D1 P0[24]/TD2 (io), D2 P1[19]/TRACEPKT3 (io), D3 P0[23]/RD2 (io), D4 P0[22]/CAP0[0]/MAT0[0] (io), D8 P0[18]/CAP1[3]/MISO1/MAT1[3] (io), D10 P1[30]/TMS (io), D12 P1[20]/TRACESYNC (io), D13 P0[17]/CAP1[2]/SCK1/MAT1[2] (io), E10 P0[16]/EINT0/MAT0[2]/CAP0[2] (io), E11 P0[15]/RI1/EINT2 (io), F2 P1[18]/TRACEPKT2 (io), F11 P1[21]/PIPESTAT0 (io), G10 P0[14]/DCD1/EINT1 (io), G11 P1[0]/~{CS0} (io), G13 P1[1]/~{OE} (io), H1 P0[25]/RD1 (io), H3 P0[27]/AIN0/CAP0[1]/MAT0[1] (io), H4 P1[17]/TRACEPKT1 (io), H10 P0[13]/DTR1/MAT1[1] (io), H11 P1[22]/PIPESTAT1 (io), J1 P0[28]/AIN1/CAP0[2]/MAT0[2] (io), J11 P1[23]/PIPESTAT2 (io), J12 P0[11]/CTS1/CAP1[1] (io), J13 P0[12]/DSR1/MAT1[0] (io), K6 P0[1]/RXD0/PWM3/EINT0 (io), K8 P1[25]/EXTIN0 (io), K11 P0[10]/RTS1/CAP1[0] (io), L1 P0[29]/AIN2/CAP0[3]/MAT0[3] (io), L2 P0[30]/AIN3/EINT3/CAP0[0] (io), L3 P1[16]/TRACEPKT0 (io), L4 P0[0]/TXD0/PWM1 (io), L6 P0[2]/SCL/CAP0[0] (io), L8 P0[4]/SCK0/CAP0[1] (io), L11 P1[24]/TRACECLK (io), L12 P0[8]/TXD1/PWM4 (io), L13 P0[9]/RXD1/PWM6/EINT3 (io), M4 P1[31]/~{TRST} (io), M8 P0[3]/SDA/MAT0[0]/EINT1 (io), M11 P0[7]/SSEL0/PWM2/EINT2 (io), N6 P1[26]/RTCK (io), N9 P0[5]/MISO0/MAT0[1] (io), N11 P0[6]/MOSI0/CAP0[2] (io)
part B pins: A1 P2[22]/D22 (io), A4 P2[21]/D21 (io), A5 P2[18]/D18 (io), A6 P2[14]/D14 (io), A8 P2[11]/D11 (io), A9 P2[10]/D10 (io), A10 P2[7]/D7 (io), A13 P2[4]/D4 (io), B3 XTAL2 "Output from the oscillator amplifier.", B5 P2[19]/D19 (io), B6 P2[15]/D15 (io), B7 P2[12]/D12 (io), B10 P2[6]/D6 (io), B12 P2[3]/D3 (io), C3 XTAL1 (in) "Input to the oscillator circuit and internal clock generator circuits.", C5 ~{RESET} (in) "External reset input: A LOW on this pin resets the device,causing I/O ports and peripherals to take on their default states, and processor execution to begin at address 0. TTL with hysteresis, 5 V tolerant.", C6 P2[16]/D16 (io), C7 P2[13]/D13 (io), C9 P2[9]/D9 (io), C10 P2[5]/D5 (io), C11 P2[2]/D2 (io), C12 P2[1]/D1 (io), D5 P2[20]/D20 (io), D6 P2[17]/D17 (io), D9 P2[8]/D8 (io), E1 P2[25]/D25 (io), E2 P2[24]/D24 (io), E3 P2[23]/D23 (io), E12 P2[0]/D0 (io), E13 P3[30]/~{BLS1} (io), F1 P2[27]/D27/BOOT1 (io), F4 P2[26]/D26/BOOT0 (io), F10 P3[31]/~{BLS0} (io), G1 P2[29]/D29 (io), G2 P2[28]/D28 (io), G3 P2[30]/D30/AIN4 (io), G4 P2[31]/D31/AIN5 (io), G12 P3[0]/A0 (io), H2 TD1 (out) "TD1: CAN1 transmitter output.", H12 P3[2]/A2 (io), H13 P3[1]/A1 (io), J3 P3[29]/~{BLS2}/AIN6 (io), J4 P3[28]/~{BLS3}/AIN7 (io), J10 P3[3]/A3 (io), K1 P3[27]/~{WE} (io), K2 P3[26]/~{CS1} (io), K4 P3[22]/A22 (io), K5 P3[20]/A20 (io), K7 P3[14]/A14 (io), K9 P3[11]/A11 (io), K13 P3[4]/A4 (io), L5 P3[19]/A19 (io), L7 P3[15]/A15 (io), L9 P3[12]/A12 (io), M1 P3[25]/~{CS2} (io), M2 P3[24]/~{CS3} (io), M5 P3[18]/A18 (io), M7 P3[16]/A16 (io), M9 P3[13]/A13 (io), M10 P3[9]/A9 (io), M12 P3[7]/A7 (io), M13 P3[5]/A5 (io), N3 P3[23]/A23/XCLK (io), N4 P3[21]/A21 (io), N5 P3[17]/A17 (io), N10 P3[10]/A10 (io), N12 P3[8]/A8 (io), N13 P3[6]/A6 (io)
part C pins: A2 VDDA(1V8) (power) "Analog 1.8 V core power supply: This is the power supply voltage for internal circuitry. This should be nominally the same voltage as VDD(1V8) but should be isolated to minimize noise and error.", A11 VDD(3V3) (power) "3.3 V pad power supply: This is the power supply voltage for the I/O ports.", A12 VDD(1V8) (power) "1.8 V core power supply: This is the power supply voltage for internal circuitry.", B1 VDD(3V3) (power) "3.3 V pad power supply: This is the power supply voltage for the I/O ports.", B4 VSSA(PLL) (power) "PLL analog ground: 0 V reference. This should nominally be the same voltage as VSS, but should be isolated to minimize noise and error.", B9 VDD(3V3) (power) "3.3 V pad power supply: This is the power supply voltage for the I/O ports.", B11 VSS (power) "Ground: 0 V reference.", B13 VSS (power) "Ground: 0 V reference.", C2 VSS (power) "Ground: 0 V reference.", C4 VSSA (power) "Analog ground: 0 V reference. This should nominally be the same voltage as VSS, but should be isolated to minimize noise and error.", C13 VDD(3V3) (power) "3.3 V pad power supply: This is the power supply voltage for the I/O ports.", D7 VSS (power) "Ground: 0 V reference.", D11 VSS (power) "Ground: 0 V reference.", E4 VSS (power) "Ground: 0 V reference.", F3 VDDA(3V3) (power) "Analog 3.3 V pad power supply: This should be nominally the same voltage as VDD(3V3) but should be isolated to minimize noise and error.", F12 VDD(3V3) (power) "3.3 V pad power supply: This is the power supply voltage for the I/O ports.", F13 VSS (power) "Ground: 0 V reference.", J2 VSS (power) "Ground: 0 V reference.", K3 VDD(3V3) (power) "3.3 V pad power supply: This is the power supply voltage for the I/O ports.", K10 VDD(3V3) (power) "3.3 V pad power supply: This is the power supply voltage for the I/O ports.", K12 VSS (power) "Ground: 0 V reference.", L10 VSS (power) "Ground: 0 V reference.", M3 VDD(3V3) (power) "3.3 V pad power supply: This is the power supply voltage for the I/O ports.", M6 VDD(3V3) (power) "3.3 V pad power supply: This is the power supply voltage for the I/O ports.", N1 VDD(1V8) (power) "1.8 V core power supply: This is the power supply voltage for internal circuitry.", N2 VSS (power) "Ground: 0 V reference.", N7 VSS (power) "Ground: 0 V reference.", N8 VDD(3V3) (power) "3.3 V pad power supply: This is the power supply voltage for the I/O ports."

## LPC2294HBD144/01,5
designator U?
16/32-bit ARM7 Microcontroller, 112 I/O, 256 kB Flash, 16 kB SRAM, -40 to 125 degC, 144-Pin LQFP, Tray; Manufacturer: NXP Semiconductors; PartNumber: LPC2294HBD144/01,5; # of timers: 2; ADC (bits): 10; ADC Channels: 8; CAN: 4; Flash (KB): 256; fmax [max] (MHz): 60; I/O Pins: 112; I2C: 1; PLL: TRUE; PWM: 6; RAM (KB): 16; Timer (bits): 32; DatasheetVersion: Rev. 8; PackageVersion: Feb-03; PackageReference: SOT486-1; PackageDescription: 144-Pin Plastic Low Profile Quad Flat Package, Body 20 x 20 mm, Pitch 0.5 mm; Supplier 1: Digi-Key; Supplier Part Number 1: 568-4321-ND; Supplier 2: Farnell; Supplier Part Number 2: 1690392; Supplier 3: Newark; Supplier Part Number 3: 70R5643; Supplier 4: Mouser; Supplier Part Number 4: 771-LPC2294HBD144015; Core: ARM7; Packing: Tray; SPI: 2; SSP: 4; UART: 2; Mounting Technology: Surface Mount; Code_JEDEC: MS-026; ComponentLink1Description: Manufacturer URL; ComponentLink1URL: http://www.nxp.com/; ComponentLink2Description: Datasheet; ComponentLink2URL: http://www.nxp.com/documents/data_sheet/LPC2292_2294.pdf; ComponentLink3Description: Package Specification; ComponentLink3URL: http://www.nxp.com/documents/outline_drawing/sot486-1_po.pdf
footprint NXP-SOT486-1_V (QFP, 144-Leads, Body 20x20mm, Pitch 0.5mm)
part A pins: 4 P0[21]/PWM5/RD3/CAP1[3] (io), 5 P0[22]/TD3/CAP0[0]/MAT0[0] (io), 6 P0[23]/RD2 (io), 7 P1[19]/TRACEPKT3 (io), 8 P0[24]/TD2 (io), 15 P1[18]/TRACEPKT2 (io), 21 P0[25]/RD1 (io), 23 P0[27]/AIN0/CAP0[1]/MAT0[1] (io), 24 P1[17]/TRACEPKT1 (io), 25 P0[28]/AIN1/CAP0[2]/MAT0[2] (io), 32 P0[29]/AIN2/CAP0[3]/MAT0[3] (io), 33 P0[30]/AIN3/EINT3/CAP0[0] (io), 34 P1[16]/TRACEPKT0 (io), 42 P0[0]/TXD0/PWM1 (io), 43 P1[31]/~{TRST} (io), 49 P0[1]/RXD0/PWM3/EINT0 (io), 50 P0[2]/SCL/CAP0[0] (io), 52 P1[26]/RTCK (io), 58 P0[3]/SDA/MAT0[0]/EINT1 (io), 59 P0[4]/SCK0/CAP0[1] (io), 60 P1[25]/EXTIN0 (io), 61 P0[5]/MISO0/MAT0[1] (io), 68 P0[6]/MOSI0/CAP0[2] (io), 69 P0[7]/SSEL0/PWM2/EINT2 (io), 70 P1[24]/TRACECLK (io), 75 P0[8]/TXD1/PWM4 (io), 76 P0[9]/RXD1/PWM6/EINT3 (io), 78 P0[10]/RTS1/CAP1[0] (io), 82 P1[23]/PIPESTAT2 (io), 83 P0[11]/CTS1/CAP1[1] (io), 84 P0[12]/DSR1/MAT1[0]/RD4 (io), 85 P0[13]/DTR1/MAT1[1]/TD4 (io), 86 P1[22]/PIPESTAT1 (io), 90 P1[1]/~{OE} (io), 91 P1[0]/~{CS0} (io), 92 P0[14]/DCD1/EINT1 (io), 95 P1[21]/PIPESTAT0 (io), 99 P0[15]/RI1/EINT2 (io), 100 P0[16]/EINT0/MAT0[2]/CAP0[2] (io), 101 P0[17]/CAP1[2]/SCK1/MAT1[2] (io), 102 P1[20]/TRACESYNC (io), 113 P1[30]/TMS (io), 121 P0[18]/CAP1[3]/MISO1/MAT1[3] (io), 122 P0[19]/MAT1[2]/MOSI1/CAP1[2] (io), 123 P0[20]/MAT1[3]/SSEL1/EINT3 (io), 126 P1[29]/TCK (io), 140 P1[28]/TDI (io), 144 P1[27]/TDO (io)
part B pins: 1 P2[22]/D22 (io), 10 P2[23]/D23 (io), 11 P2[24]/D24 (io), 12 P2[25]/D25 (io), 13 P2[26]/D26/BOOT0 (io), 16 P2[27]/D27/BOOT1 (io), 17 P2[28]/D28 (io), 18 P2[29]/D29 (io), 19 P2[30]/D30/AIN4 (io), 20 P2[31]/D31/AIN5 (io), 22 TD1 (out) "TD1: CAN1 transmitter output.", 27 P3[29]/~{BLS2}/AIN6 (io), 28 P3[28]/~{BLS3}/AIN7 (io), 29 P3[27]/~{WE} (io), 30 P3[26]/~{CS1} (io), 35 P3[25]/~{CS2} (io), 36 P3[24]/~{CS3} (io), 40 P3[23]/A23/XCLK (io), 41 P3[22]/A22 (io), 44 P3[21]/A21 (io), 45 P3[20]/A20 (io), 46 P3[19]/A19 (io), 47 P3[18]/A18 (io), 48 P3[17]/A17 (io), 53 P3[16]/A16 (io), 55 P3[15]/A15 (io), 56 P3[14]/A14 (io), 62 P3[13]/A13 (io), 63 P3[12]/A12 (io), 64 P3[11]/A11 (io), 65 P3[10]/A10 (io), 66 P3[9]/A9 (io), 71 P3[8]/A8 (io), 72 P3[7]/A7 (io), 73 P3[6]/A6 (io), 74 P3[5]/A5 (io), 80 P3[4]/A4 (io), 81 P3[3]/A3 (io), 87 P3[2]/A2 (io), 88 P3[1]/A1 (io), 89 P3[0]/A0 (io), 96 P3[31]/~{BLS0} (io), 97 P3[30]/~{BLS1} (io), 98 P2[0]/D0 (io), 105 P2[1]/D1 (io), 106 P2[2]/D2 (io), 108 P2[3]/D3 (io), 109 P2[4]/D4 (io), 114 P2[5]/D5 (io), 115 P2[6]/D6 (io), 116 P2[7]/D7 (io), 117 P2[8]/D8 (io), 118 P2[9]/D9 (io), 120 P2[10]/D10 (io), 124 P2[11]/D11 (io), 125 P2[12]/D12 (io), 127 P2[13]/D13 (io), 129 P2[14]/D14 (io), 130 P2[15]/D15 (io), 131 P2[16]/D16 (io), 132 P2[17]/D17 (io), 133 P2[18]/D18 (io), 134 P2[19]/D19 (io), 135 ~{RESET} (in) "External Reset input: A LOW on this pin resets the device, causing I/O ports and peripherals to take on their default states, and processor execution to begin at address 0. TTL with hysteresis, 5 V tolerant.", 136 P2[20]/D20 (io), 137 P2[21]/D21 (io), 141 XTAL2 "Output from the oscillator amplifier.", 142 XTAL1 (in) "Input to the oscillator circuit and internal clock generator circuits."
part C pins: 2 VDD(3V3) (power) "3.3 V pad power supply: This is the power supply voltage for the I/O ports.", 3 VSS (power) "Ground: 0 V reference.", 9 VSS (power) "Ground: 0 V reference.", 14 VDDA(3V3) (power) "Analog 3.3 V pad power supply: This should be nominally the same voltage as VDD(3V3) but should be isolated to minimize noise and error.", 26 VSS (power) "Ground: 0 V reference.", 31 VDD(3V3) (power) "3.3 V pad power supply: This is the power supply voltage for the I/O ports.", 37 VDD(1V8) (power) "1.8 V core power supply: This is the power supply voltage for internal circuitry.", 38 VSS (power) "Ground: 0 V reference.", 39 VDD(3V3) (power) "3.3 V pad power supply: This is the power supply voltage for the I/O ports.", 51 VDD(3V3) (power) "3.3 V pad power supply: This is the power supply voltage for the I/O ports.", 54 VSS (power) "Ground: 0 V reference.", 57 VDD(3V3) (power) "3.3 V pad power supply: This is the power supply voltage for the I/O ports.", 67 VSS (power) "Ground: 0 V reference.", 77 VDD(3V3) (power) "3.3 V pad power supply: This is the power supply voltage for the I/O ports.", 79 VSS (power) "Ground: 0 V reference.", 93 VSS (power) "Ground: 0 V reference.", 94 VDD(3V3) (power) "3.3 V pad power supply: This is the power supply voltage for the I/O ports.", 103 VSS (power) "Ground: 0 V reference.", 104 VDD(3V3) (power) "3.3 V pad power supply: This is the power supply voltage for the I/O ports.", 107 VSS (power) "Ground: 0 V reference.", 110 VDD(1V8) (power) "1.8 V core power supply: This is the power supply voltage for internal circuitry.", 111 VSS (power) "Ground: 0 V reference.", 112 VDD(3V3) (power) "3.3 V pad power supply: This is the power supply voltage for the I/O ports.", 119 VDD(3V3) (power) "3.3 V pad power supply: This is the power supply voltage for the I/O ports.", 128 VSS (power) "Ground: 0 V reference.", 138 VSSA(PLL) (power) "PLL analog ground: 0 V reference. This should nominally be the same voltage as VSS, but should be isolated to minimize noise and error.", 139 VSSA (power) "Analog ground: 0 V reference. This should nominally be the same voltage as VSS, but should be isolated to minimize noise and error.", 143 VDDA(1V8) (power) "Analog 1.8 V core power supply: This is the power supply voltage for internal circuitry. This should be nominally the same voltage as VDD(1V8) but should be isolated to minimize noise and error."

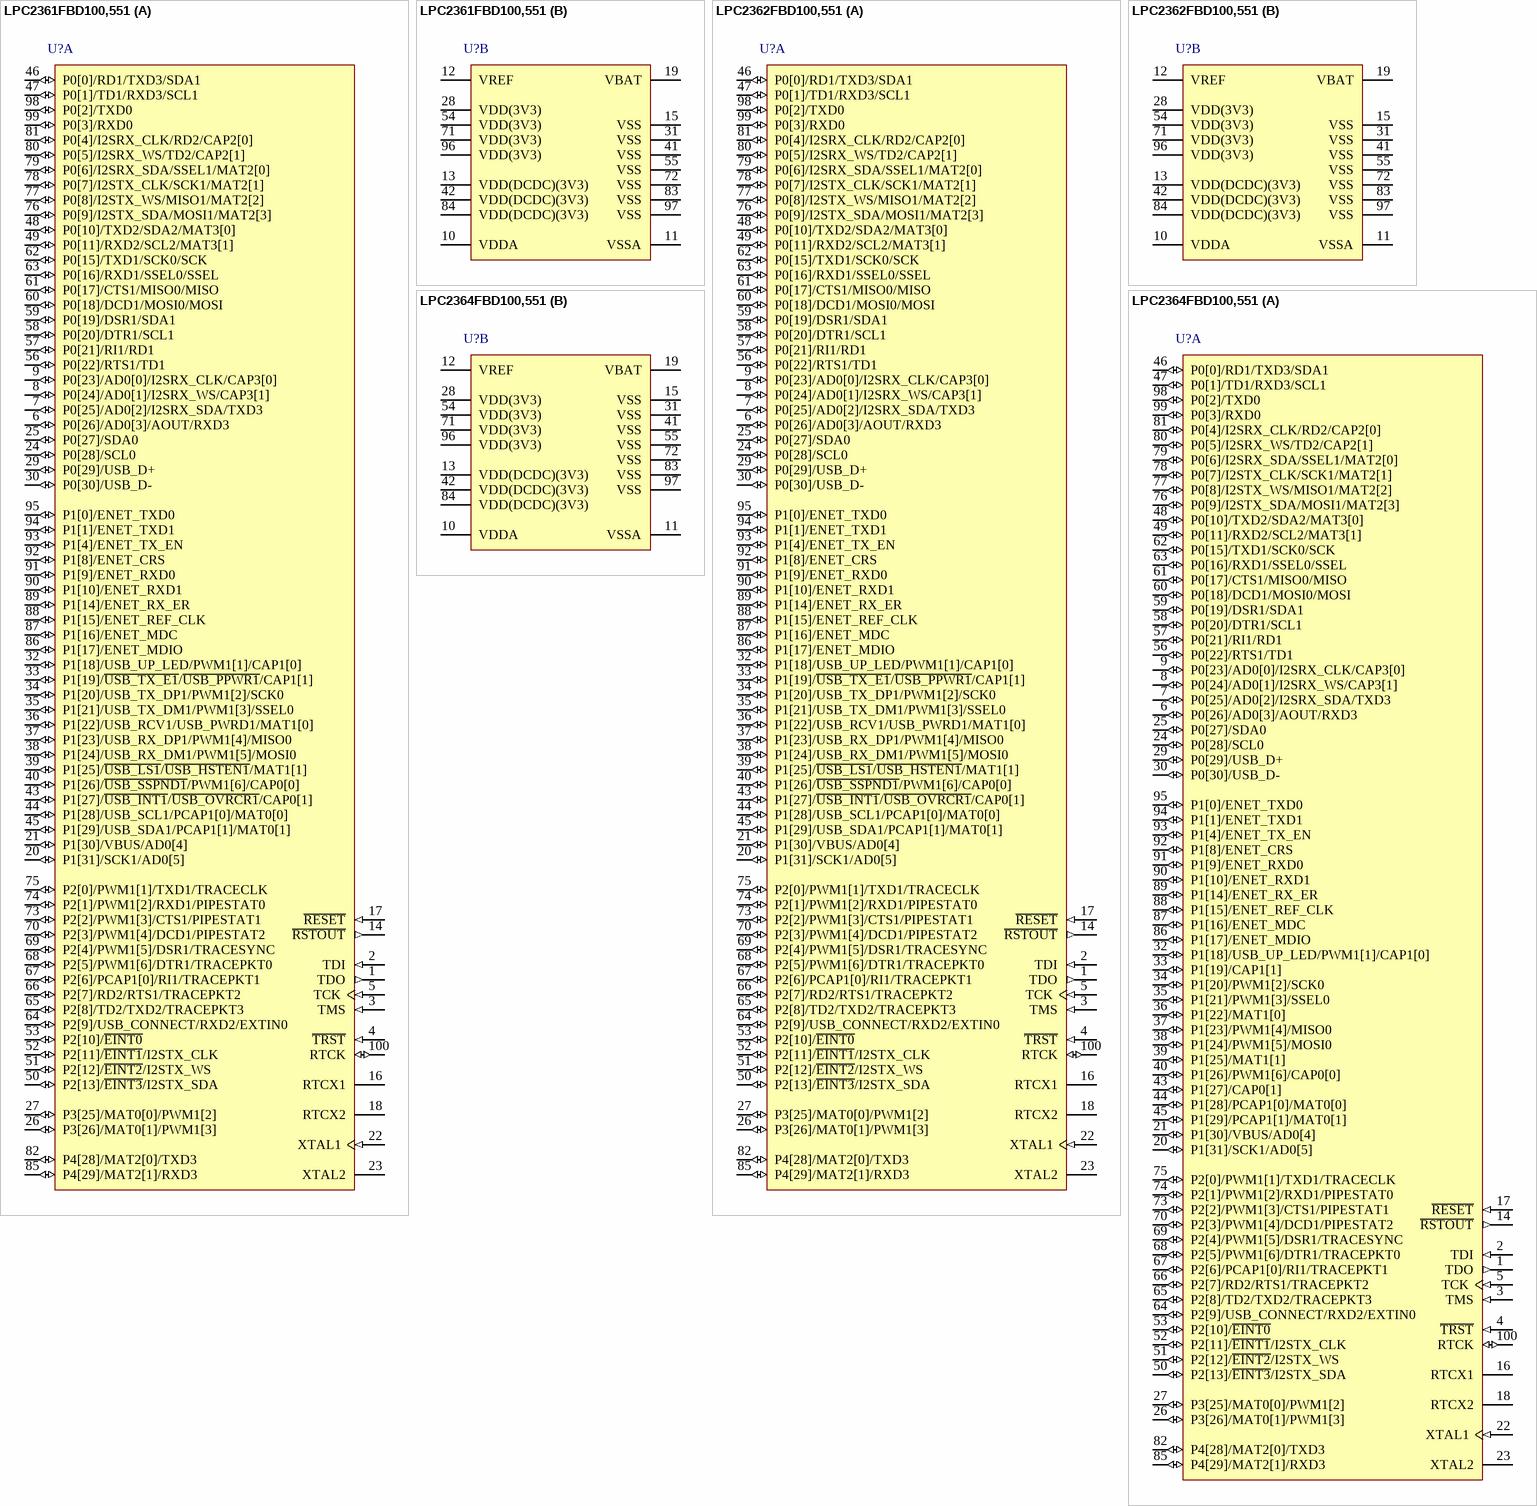
[diagram p18: symbols LPC2361FBD100,551 to LPC2364FBD100,551]

## LPC2361FBD100,551
designator U?
16/32-bit ARM7 Microcontroller, 70 I/O, 64 kB Flash, 34 kB SRAM, -40 to 85 degC, 100-Pin LQFP, Tray; Manufacturer: NXP Semiconductors; PartNumber: LPC2361FBD100,551; # of timers: 4; ADC (bits): 10; ADC Channels: 6; CAN: 2; Flash (KB): 64; fmax [max] (MHz): 72; I/O Pins: 70; I2C: 3; PLL: TRUE; RAM (KB): 34; SPI: 1; Timer (bits): 32; DatasheetVersion: Rev. 5.1; PackageVersion: Feb-03; PackageReference: SOT407-1; PackageDescription: 100-Pin Plastic Low Profile Quad Flat Package, Body 14 x 14 mm, Pitch 0.5 mm; Supplier 1: Digi-Key; Supplier Part Number 1: 568-4525-ND; Supplier 2: Farnell; Supplier Part Number 2: 2314790; Supplier 3: Newark; Supplier Part Number 3: 95W3353; Supplier 4: Mouser; Supplier Part Number 4: 771-LPC2361FBD100-S; Core: ARM7; Packing: Tray; PWM: 6; SSP: 2; UART: 4; USB: 1; Mounting Technology: Surface Mount; Code_JEDEC: MS-026; ComponentLink1Description: Manufacturer URL; ComponentLink1URL: http://www.nxp.com/; ComponentLink2Description: Datasheet; ComponentLink2URL: http://www.nxp.com/documents/data_sheet/LPC2361_62.pdf; ComponentLink3Description: Package Specification; ComponentLink3URL: http://www.nxp.com/documents/outline_drawing/sot407-1_po.pdf
footprint NXP-SOT407-1_V (QFP, 100-Leads, Body 14x14mm, Pitch 0.5mm)
part A pins: 1 TDO (out) "TDO - Test Data out for JTAG interface.", 2 TDI (in) "TDI - Test Data in for JTAG interface.", 3 TMS (in) "TMS - Test Mode Select for JTAG interface.", 4 ~{TRST} (in) "T\R\S\T\ - Test Reset for JTAG interface.", 5 TCK (in) "TCK - Test Clock for JTAG interface. This clock must be slower than 1 ⁄ 6 of the CPU clock (CCLK) for the JTAG interface to operate", 6 P0[26]/AD0[3]/AOUT/RXD3 (io), 7 P0[25]/AD0[2]/I2SRX_SDA/TXD3 (io), 8 P0[24]/AD0[1]/I2SRX_WS/CAP3[1] (io), 9 P0[23]/AD0[0]/I2SRX_CLK/CAP3[0] (io), 14 ~{RSTOUT} (out) "R\S\T\O\U\T\ - This is a 3.3 V pin. LOW on this pin indicates LPC2361/2362 being in Reset state.", 16 RTCX1 "Input to the RTC oscillator circuit.", 17 ~{RESET} (in) "External reset input: A LOW on this pin resets the device, causing I/O ports and peripherals to take on their default states, and processor execution to begin at address 0. TTL with hysteresis, 5 V tolerant.", 18 RTCX2 "Output from the RTC oscillator circuit.", 20 P1[31]/SCK1/AD0[5] (io), 21 P1[30]/VBUS/AD0[4] (io), 22 XTAL1 (in) "Input to the oscillator circuit and internal clock generator circuits.", 23 XTAL2 "Output from the oscillator amplifier.", 24 P0[28]/SCL0 (io), 25 P0[27]/SDA0 (io), 26 P3[26]/MAT0[1]/PWM1[3] (io), 27 P3[25]/MAT0[0]/PWM1[2] (io), 29 P0[29]/USB_D+ (io), 30 P0[30]/USB_D- (io), 32 P1[18]/USB_UP_LED/PWM1[1]/CAP1[0] (io), 33 P1[19]/~{USB_TX_E1}/~{USB_PPWR1}/CAP1[1] (io), 34 P1[20]/USB_TX_DP1/PWM1[2]/SCK0 (io), 35 P1[21]/USB_TX_DM1/PWM1[3]/SSEL0 (io), 36 P1[22]/USB_RCV1/USB_PWRD1/MAT1[0] (io), 37 P1[23]/USB_RX_DP1/PWM1[4]/MISO0 (io), 38 P1[24]/USB_RX_DM1/PWM1[5]/MOSI0 (io), 39 P1[25]/~{USB_LS1}/~{USB_HSTEN1}/MAT1[1] (io), 40 P1[26]/~{USB_SSPND1}/PWM1[6]/CAP0[0] (io), 43 P1[27]/~{USB_INT1}/~{USB_OVRCR1}/CAP0[1] (io) "3.3 V DC-to-DC converter supply voltage: This is the supply voltage for the on-chip DC-to-DC converter only.", 44 P1[28]/USB_SCL1/PCAP1[0]/MAT0[0] (io), 45 P1[29]/USB_SDA1/PCAP1[1]/MAT0[1] (io), 46 P0[0]/RD1/TXD3/SDA1 (io), 47 P0[1]/TD1/RXD3/SCL1 (io), 48 P0[10]/TXD2/SDA2/MAT3[0] (io), 49 P0[11]/RXD2/SCL2/MAT3[1] (io), 50 P2[13]/~{EINT3}/I2STX_SDA (io), 51 P2[12]/~{EINT2}/I2STX_WS (io), 52 P2[11]/~{EINT1}/I2STX_CLK (io), 53 P2[10]/~{EINT0} (io), 56 P0[22]/RTS1/TD1 (io), 57 P0[21]/RI1/RD1 (io), 58 P0[20]/DTR1/SCL1 (io), 59 P0[19]/DSR1/SDA1 (io), 60 P0[18]/DCD1/MOSI0/MOSI (io), 61 P0[17]/CTS1/MISO0/MISO (io), 62 P0[15]/TXD1/SCK0/SCK (io), 63 P0[16]/RXD1/SSEL0/SSEL (io), 64 P2[9]/USB_CONNECT/RXD2/EXTIN0 (io), 65 P2[8]/TD2/TXD2/TRACEPKT3 (io), 66 P2[7]/RD2/RTS1/TRACEPKT2 (io), 67 P2[6]/PCAP1[0]/RI1/TRACEPKT1 (io), 68 P2[5]/PWM1[6]/DTR1/TRACEPKT0 (io), 69 P2[4]/PWM1[5]/DSR1/TRACESYNC (io), 70 P2[3]/PWM1[4]/DCD1/PIPESTAT2 (io), 73 P2[2]/PWM1[3]/CTS1/PIPESTAT1 (io), 74 P2[1]/PWM1[2]/RXD1/PIPESTAT0 (io), 75 P2[0]/PWM1[1]/TXD1/TRACECLK (io), 76 P0[9]/I2STX_SDA/MOSI1/MAT2[3] (io), 77 P0[8]/I2STX_WS/MISO1/MAT2[2] (io), 78 P0[7]/I2STX_CLK/SCK1/MAT2[1] (io), 79 P0[6]/I2SRX_SDA/SSEL1/MAT2[0] (io), 80 P0[5]/I2SRX_WS/TD2/CAP2[1] (io), 81 P0[4]/I2SRX_CLK/RD2/CAP2[0] (io), 82 P4[28]/MAT2[0]/TXD3 (io), 85 P4[29]/MAT2[1]/RXD3 (io), 86 P1[17]/ENET_MDIO (io), 87 P1[16]/ENET_MDC (io), 88 P1[15]/ENET_REF_CLK (io), 89 P1[14]/ENET_RX_ER (io), 90 P1[10]/ENET_RXD1 (io), 91 P1[9]/ENET_RXD0 (io), 92 P1[8]/ENET_CRS (io), 93 P1[4]/ENET_TX_EN (io), 94 P1[1]/ENET_TXD1 (io), 95 P1[0]/ENET_TXD0 (io), 98 P0[2]/TXD0 (io), 99 P0[3]/RXD0 (io), 100 RTCK (io) "RTCK - JTAG interface control signal."
part B pins: 10 VDDA (power) "analog 3.3 V pad supply voltage: This should be nominally the same voltage as VDD(3V3) but should be isolated to minimize noise and error. This voltage is used to power the ADC and DAC.", 11 VSSA (power) "analog ground: 0 V reference. This should nominally be the same voltage as VSS, but should be isolated to minimize noise and error.", 12 VREF "ADC reference: This should be nominally the same voltage as VDD(3V3) but should be isolated to minimize noise and error. Level on this pin is used as a reference for ADC and DAC.", 13 VDD(DCDC)(3V3) (power) "3.3 V DC-to-DC converter supply voltage: This is the supply voltage for the on-chip DC-to-DC converter only.", 15 VSS (power) "ground: 0 V reference.", 19 VBAT (power) "RTC power supply: 3.3 V on this pin supplies the power to the RTC peripheral.", 28 VDD(3V3) (power) "3.3 V supply voltage: This is the power supply voltage for the I/O ports.", 31 VSS (power) "ground: 0 V reference.", 41 VSS (power) "ground: 0 V reference.", 42 VDD(DCDC)(3V3) (power), 54 VDD(3V3) (power) "3.3 V supply voltage: This is the power supply voltage for the I/O ports.", 55 VSS (power) "ground: 0 V reference.", 71 VDD(3V3) (power) "3.3 V supply voltage: This is the power supply voltage for the I/O ports.", 72 VSS (power) "ground: 0 V reference.", 83 VSS (power) "ground: 0 V reference.", 84 VDD(DCDC)(3V3) (power) "3.3 V DC-to-DC converter supply voltage: This is the supply voltage for the on-chip DC-to-DC converter only.", 96 VDD(3V3) (power) "3.3 V supply voltage: This is the power supply voltage for the I/O ports.", 97 VSS (power) "ground: 0 V reference."